# Altium schematic symbol library 507_Parts.SchLib: 15 symbols
Pins are listed as number, name and electrical type; pins without a type are passive.

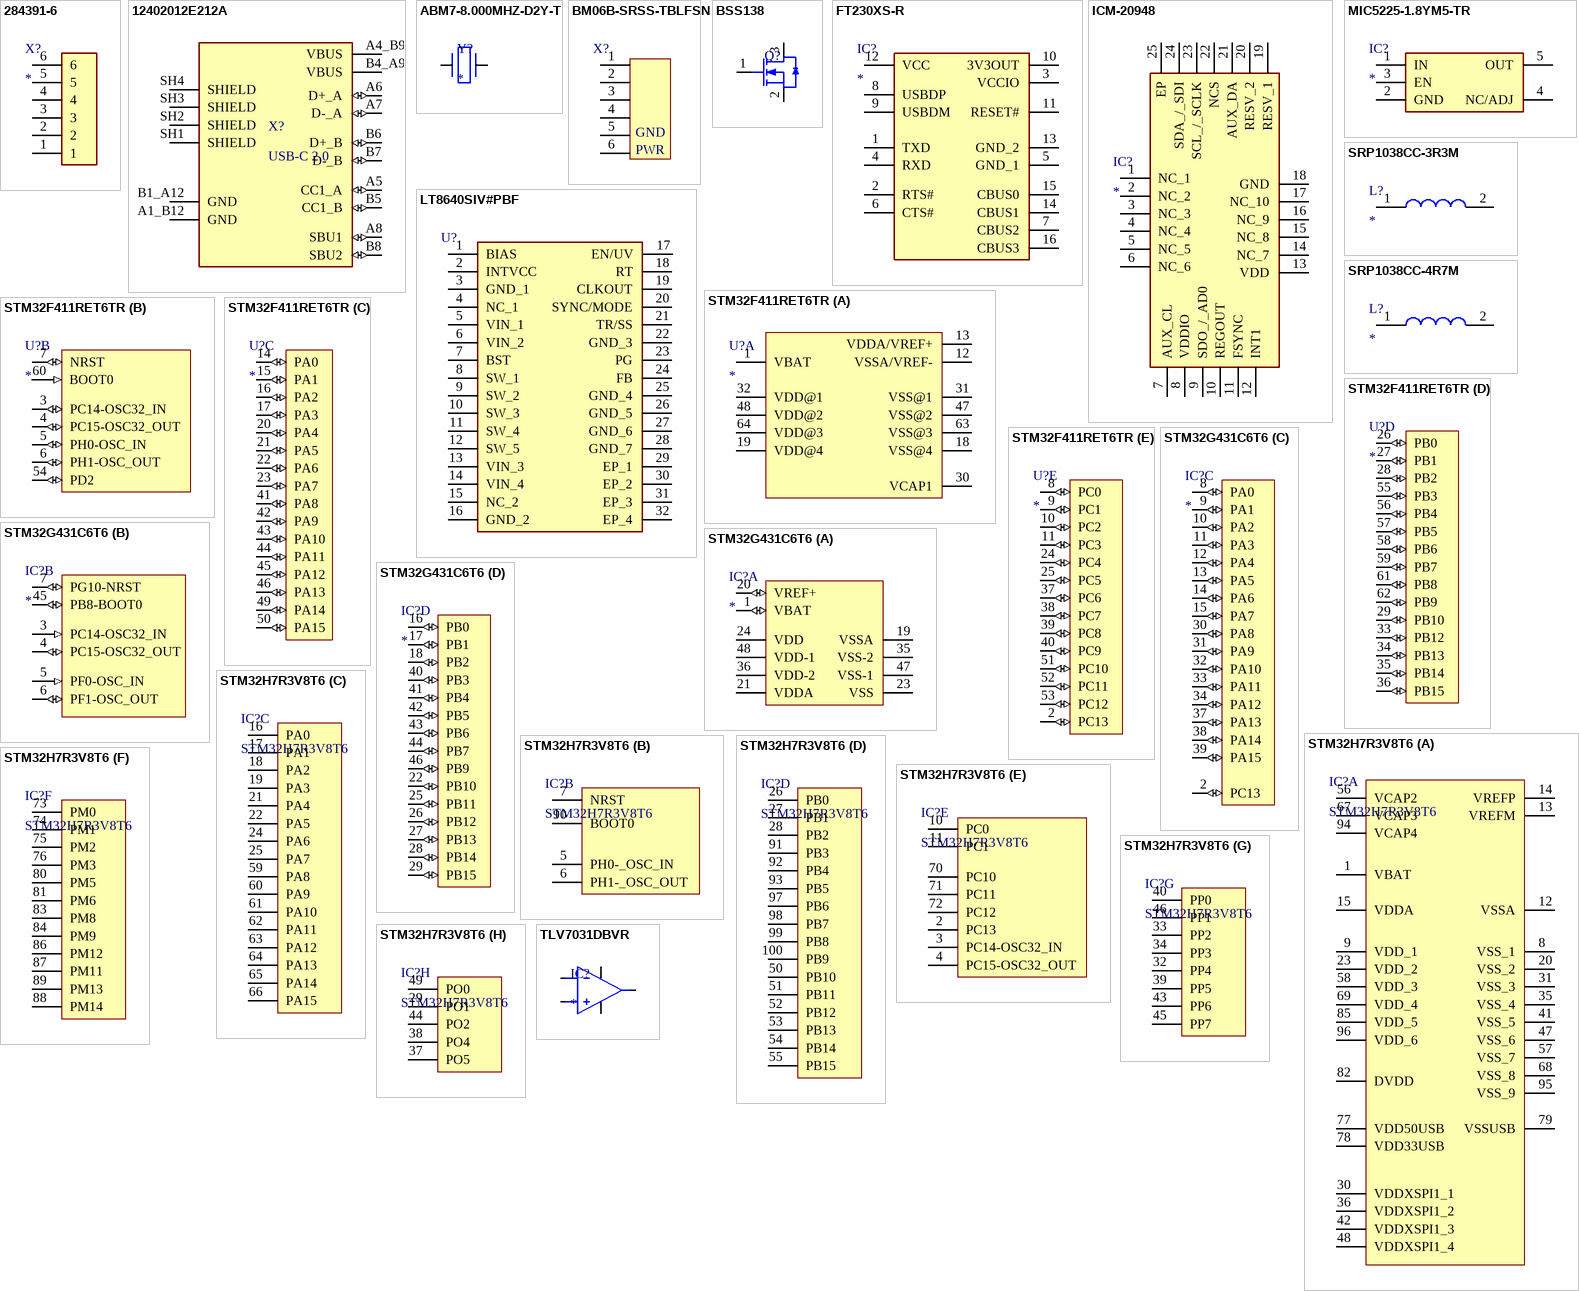
[diagram p0: symbols 284391-6 to TLV7031DBVR]

## 284391-6
designator X?
Connector; Manufacturer_Name: TE Connectivity; Manufacturer_Part_Number: 284391-6; Datasheet Link: https://www.te.com/commerce/DocumentDelivery/DDEController?Action=srchrtrv&DocNm=1-1773458-1_EURO_STYLE_QRG&DocType=Data%20Sheet&DocLang=English&PartCntxt=284391-6&DocFormat=pdf; Height: 12.8mm; Mouser Part Number: 571-284391-6; Mouser Price/Stock: https://www.mouser.co.uk/ProductDetail/TE-Connectivity/284391-6?qs=79dOc3%2F91%2FeC3GGdUf8hxQ%3D%3D; Arrow Part Number: 284391-6; Arrow Price/Stock: https://www.arrow.com/en/products/284391-6/te-connectivity?region=nac
footprint 2843916
pins: 1, 2, 3, 4, 5, 6

## 12402012E212A
designator X?, comment USB-C 2.0
CONN RCP USB2.0 TYP C 24P SMD RA; MF: {'manufacturer': u'Amphenol'}; MP: 12402012E212A; Package: None; Price: None; Value: *; Availability: Unavailable
footprint AMPHENOL_12402012E212A (Footprint not found)
pins: A1_B12 GND (power), A4_B9 VBUS (power), A5 CC1_A (io), A6 D+_A (io), A7 D-_A (io), A8 SBU1 (io), B1_A12 GND (power), B4_A9 VBUS (power), B5 CC1_B (io), B6 D+_B (io), B7 D-_B (io), B8 SBU2 (io), SH1 SHIELD, SH2 SHIELD, SH3 SHIELD, SH4 SHIELD

## ABM7-8.000MHZ-D2Y-T
designator Y?
Crystal or Oscillator; Manufacturer_Name: ABRACON; Manufacturer_Part_Number: ABM7-8.000MHZ-D2Y-T; Datasheet Link: https://abracon.com/Resonators/abm7.pdf; Height: 1.4mm; Mouser Part Number: 815-ABM7-8-D2Y-T; Mouser Price/Stock: https://www.mouser.co.uk/ProductDetail/ABRACON/ABM7-8.000MHZ-D2Y-T?qs=LoTOQoUkC8SFsmY8snleBA%3D%3D; Arrow Part Number: ABM7-8.000MHZ-D2Y-T; Arrow Price/Stock: https://www.arrow.com/en/products/abm7-8.000mhz-d2y-t/abracon?region=europe
footprint ABM7
pins: 1, 2

## BM06B-SRSS-TBLFSN
designator X?, comment BM06B-SRSS-TB  (value not drawn)
CONN HEADER SMD 6POS 1MM; Mfr_Name: JST; RefDes: X?; Type: Type; ComponentLink1Description: New link; ComponentLink1URL: https://www.digikey.com/en/products/detail/jst-sales-america-inc/BM06B-SRSS-TB/926698
footprint CONN_BM06B-SRSS-TB_JST
pins: 1, 2, 3, 4, 5, 6
text: GND; PWR

## BSS138
designator Q?  (value not drawn)
MOSFET (N-Channel); Manufacturer_Name: onsemi; Manufacturer_Part_Number: BSS138; Datasheet Link: https://www.onsemi.com/pub/Collateral/BSS138-D.PDF; Height: 1.2mm; Mouser Part Number: 512-BSS138; Mouser Price/Stock: https://www.mouser.co.uk/ProductDetail/onsemi-Fairchild/BSS138?qs=HK%252BeIG1iaahCeqBvjB4arg%3D%3D; Arrow Part Number: BSS138; Arrow Price/Stock: https://www.arrow.com/en/products/bss138/on-semiconductor
footprint SOT95P240X120-3N
pins: 1 G, 2 S, 3 D

## FT230XS-R
designator IC?
Integrated Circuit; Manufacturer_Name: FTDI Chip; Manufacturer_Part_Number: FT230XS-R; Datasheet Link: http://www.ftdichip.com/Support/Documents/DataSheets/ICs/DS_FT230X.pdf; Height: 1.753mm; Mouser Part Number: 895-FT230XS-R; Mouser Price/Stock: https://www.mouser.co.uk/ProductDetail/FTDI/FT230XS-R?qs=Gp1Yz1mis3XyCLeYOseSng%3D%3D; Arrow Part Number: FT230XS-R; Arrow Price/Stock: http://www.arrow.com/en/products/ft230xs-r/ftdi-chip
footprint SOP64P599X175-16N
pins: 1 TXD, 2 RTS#, 3 VCCIO, 4 RXD, 5 GND_1, 6 CTS#, 7 CBUS2, 8 USBDP, 9 USBDM, 10 3V3OUT, 11 RESET#, 12 VCC, 13 GND_2, 14 CBUS1, 15 CBUS0, 16 CBUS3

## ICM-20948
designator IC?
Integrated Circuit; Manufacturer_Name: TDK; Manufacturer_Part_Number: ICM-20948; Datasheet Link: https://product.tdk.com/system/files/dam/doc/product/sensor/mortion-inertial/imu/data_sheet/ds-000189-icm-20948-v1.3.pdf; Height: 1.05mm; Mouser Part Number: 410-ICM-20948; Mouser Price/Stock: https://www.mouser.co.uk/ProductDetail/TDK-InvenSense/ICM-20948?qs=u4fy%2FsgLU9OtGc31yF%2Friw%3D%3D; Arrow Part Number: ICM-20948; Arrow Price/Stock: https://www.arrow.com/en/products/icm-20948/invensense?region=nac
footprint QFN40P300X300X105-25N-D
pins: 1 NC_1, 2 NC_2, 3 NC_3, 4 NC_4, 5 NC_5, 6 NC_6, 7 AUX_CL, 8 VDDIO, 9 SDO_/_AD0, 10 REGOUT, 11 FSYNC, 12 INT1, 13 VDD, 14 NC_7, 15 NC_8, 16 NC_9, 17 NC_10, 18 GND, 19 RESV_1, 20 RESV_2, 21 AUX_DA, 22 NCS, 23 SCL_/_SCLK, 24 SDA_/_SDI, 25 EP

## LT8640SIV#PBF
designator U?  (value not drawn)
Integrated Circuit; Manufacturer_Name: Analog Devices; Datasheet Link: https://www.analog.com/LT8640S/datasheet; Height: 1.03mm; Manufacturer_Part_Number: LT8640SIV#PBF; Mouser Part Number: 584-LT8640SIVPBF; Mouser Price/Stock: https://www.mouser.co.uk/ProductDetail/Analog-Devices/LT8640SIVPBF?qs=5aG0NVq1C4wLdtPauIE3hA%3D%3D; Arrow Part Number: LT8640SIV#PBF; Arrow Price/Stock: https://www.arrow.com/en/products/lt8640sivpbf/analog-devices
footprint LT8640SIVPBF
pins: 1 BIAS, 2 INTVCC, 3 GND_1, 4 NC_1, 5 VIN_1, 6 VIN_2, 7 BST, 8 SW_1, 9 SW_2, 10 SW_3, 11 SW_4, 12 SW_5, 13 VIN_3, 14 VIN_4, 15 NC_2, 16 GND_2, 17 EN/UV, 18 RT, 19 CLKOUT, 20 SYNC/MODE, 21 TR/SS, 22 GND_3, 23 PG, 24 FB, 25 GND_4, 26 GND_5, 27 GND_6, 28 GND_7, 29 EP_1, 30 EP_2, 31 EP_3, 32 EP_4

## MIC5225-1.8YM5-TR
designator IC?
Integrated Circuit; Manufacturer_Name: Microchip; Manufacturer_Part_Number: MIC5225-1.8YM5-TR; Datasheet Link: http://www.microchip.com/mymicrochip/filehandler.aspx?ddocname=en579718; Height: 1.3mm; Mouser Part Number: 998-MIC5225-1.8YM5TR; Mouser Price/Stock: https://www.mouser.co.uk/ProductDetail/Microchip-Technology/MIC5225-1.8YM5-TR?qs=U6T8BxXiZAW23RI71jjM5w%3D%3D; Arrow Part Number: MIC5225-1.8YM5-TR; Arrow Price/Stock: https://www.arrow.com/en/products/mic5225-1.8ym5-tr/microchip-technology?region=nac
footprint SOT95P280X130-5N
pins: 1 IN, 2 GND, 3 EN, 4 NC/ADJ, 5 OUT

## SRP1038CC-3R3M
designator L?
Inductor, 3.3uH; Manufacturer_Name: Bourns; Manufacturer_Part_Number: SRP1038CC-4R7M; Datasheet Link: https://www.digikey.com/en/products/detail/bourns-inc/SRP1038CC-3R3M/21263957?s=N4IgTCBcDaIMoCUAKBGADAZgBwGEcFoMEMBZEAXQF8g; Height: 4mm
footprint INDPM110100X400N
pins: 1, 2

## SRP1038CC-4R7M
designator L?
Inductor; Manufacturer_Name: Bourns; Manufacturer_Part_Number: SRP1038CC-4R7M; Datasheet Link: https://www.bourns.com/docs/Product-Datasheets/SRP1038CC.pdf; Height: 4mm
footprint INDPM110100X400N
pins: 1, 2

## STM32F411RET6TR
designator U?
High-performance access line, ARM Cortex-M4 core with DSP and FPU, 512 Kbytes Flash, 100 MHz CPU, ART Accelerator; MF: {'manufacturer': u'STMicroelectronics'}; MP: STM32F411RET6TR; Package: None; Price: None; Value: *; Availability: Unavailable
footprint QFP50P1200X1200X160-64N
part A pins: 1 VBAT (power), 12 VSSA/VREF- (power), 13 VDDA/VREF+ (power), 18 VSS@4 (power), 19 VDD@4 (power), 30 VCAP1, 31 VSS@1 (power), 32 VDD@1 (power), 47 VSS@2 (power), 48 VDD@2 (power), 63 VSS@3 (power), 64 VDD@3 (power)
part B pins: 3 PC14-OSC32_IN (io), 4 PC15-OSC32_OUT (io), 5 PH0-OSC_IN (io), 6 PH1-OSC_OUT (io), 7 NRST (io), 54 PD2 (io), 60 BOOT0 (in)
part C pins: 14 PA0 (io), 15 PA1 (io), 16 PA2 (io), 17 PA3 (io), 20 PA4 (io), 21 PA5 (io), 22 PA6 (io), 23 PA7 (io), 41 PA8 (io), 42 PA9 (io), 43 PA10 (io), 44 PA11 (io), 45 PA12 (io), 46 PA13 (io), 49 PA14 (io), 50 PA15 (io)
part D pins: 26 PB0 (io), 27 PB1 (io), 28 PB2 (io), 29 PB10 (io), 33 PB12 (io), 34 PB13 (io), 35 PB14 (io), 36 PB15 (io), 55 PB3 (io), 56 PB4 (io), 57 PB5 (io), 58 PB6 (io), 59 PB7 (io), 61 PB8 (io), 62 PB9 (io)
part E pins: 2 PC13 (io), 8 PC0 (io), 9 PC1 (io), 10 PC2 (io), 11 PC3 (io), 24 PC4 (io), 25 PC5 (io), 37 PC6 (io), 38 PC7 (io), 39 PC8 (io), 40 PC9 (io), 51 PC10 (io), 52 PC11 (io), 53 PC12 (io)

## STM32G431C6T6
designator IC?
IC MCU 32BIT 32KB FLASH 48LQFP; MF: {'manufacturer': u'STMicroelectronics'}; MP: STM32G431C6T6; Package: None; Price: None; Value: *; Availability: Unavailable
footprint QFP50P900X900X160-48N
part A pins: 1 VBAT (io), 19 VSSA (power), 20 VREF+ (io), 21 VDDA (power), 23 VSS (power), 24 VDD (power), 35 VSS-2 (power), 36 VDD-2 (power), 47 VSS-1 (power), 48 VDD-1 (power)
part B pins: 3 PC14-OSC32_IN (in), 4 PC15-OSC32_OUT (io), 5 PF0-OSC_IN (in), 6 PF1-OSC_OUT (io), 7 PG10-NRST (io), 45 PB8-BOOT0 (io)
part C pins: 2 PC13 (io), 8 PA0 (io), 9 PA1 (io), 10 PA2 (io), 11 PA3 (io), 12 PA4 (io), 13 PA5 (io), 14 PA6 (io), 15 PA7 (io), 30 PA8 (io), 31 PA9 (io), 32 PA10 (io), 33 PA11 (io), 34 PA12 (io), 37 PA13 (io), 38 PA14 (io), 39 PA15 (io)
part D pins: 16 PB0 (io), 17 PB1 (io), 18 PB2 (io), 22 PB10 (io), 25 PB11 (io), 26 PB12 (io), 27 PB13 (io), 28 PB14 (io), 29 PB15 (io), 40 PB3 (io), 41 PB4 (io), 42 PB5 (io), 43 PB6 (io), 44 PB7 (io), 46 PB9 (io)

## STM32H7R3V8T6
designator IC?
IC MCU 32BIT 64KB FLASH 100LQFP; Manufacturer_Name: STMicroelectronics; Datasheet Link: https://www.st.com/resource/en/datasheet/stm32h7r3a8.pdf; Height: 1.6mm; Manufacturer_Part_Number: STM32H7R3V8T6
footprint QFP50P1600X1600X160-100N
part A pins: 1 VBAT, 8 VSS_1, 9 VDD_1, 12 VSSA, 13 VREFM, 14 VREFP, 15 VDDA, 20 VSS_2, 23 VDD_2, 30 VDDXSPI1_1, 31 VSS_3, 35 VSS_4, 36 VDDXSPI1_2, 41 VSS_5, 42 VDDXSPI1_3, 47 VSS_6, 48 VDDXSPI1_4, 56 VCAP2, 57 VSS_7, 58 VDD_3, 67 VCAP3, 68 VSS_8, 69 VDD_4, 77 VDD50USB, 78 VDD33USB, 79 VSSUSB, 82 DVDD, 85 VDD_5, 94 VCAP4, 95 VSS_9, 96 VDD_6
part B pins: 5 PH0-_OSC_IN, 6 PH1-_OSC_OUT, 7 NRST, 90 BOOT0
part C pins: 16 PA0, 17 PA1, 18 PA2, 19 PA3, 21 PA4, 22 PA5, 24 PA6, 25 PA7, 59 PA8, 60 PA9, 61 PA10, 62 PA11, 63 PA12, 64 PA13, 65 PA14, 66 PA15
part D pins: 26 PB0, 27 PB1, 28 PB2, 50 PB10, 51 PB11, 52 PB12, 53 PB13, 54 PB14, 55 PB15, 91 PB3, 92 PB4, 93 PB5, 97 PB6, 98 PB7, 99 PB8, 100 PB9
part E pins: 2 PC13, 3 PC14-OSC32_IN, 4 PC15-OSC32_OUT, 10 PC0, 11 PC1, 70 PC10, 71 PC11, 72 PC12
part F pins: 73 PM0, 74 PM1, 75 PM2, 76 PM3, 80 PM5, 81 PM6, 83 PM8, 84 PM9, 86 PM12, 87 PM11, 88 PM14, 89 PM13
part G pins: 32 PP4, 33 PP2, 34 PP3, 39 PP5, 40 PP0, 43 PP6, 45 PP7, 46 PP1
part H pins: 29 PO1, 37 PO5, 38 PO4, 44 PO2, 49 PO0

## TLV7031DBVR
designator IC?
Analog Comparators Nanopower, small size comparator with push-pull output 5-SOT-23 -40 to 125C range; Manufacturer_Name: Texas Instruments; Manufacturer_Part_Number: TLV7031DBVR; Description: Nanopower; Datasheet Link: http://www.ti.com/lit/gpn/TLV7031; Height: 1.45mm; Mouser Part Number: 595-TLV7031DBVR; Mouser Price/Stock: https://www.mouser.co.uk/ProductDetail/Texas-Instruments/TLV7031DBVR?qs=EBDBlbfErPzxbC0zg598sw%3D%3D; Arrow Part Number: TLV7031DBVR; Arrow Price/Stock: https://www.arrow.com/en/products/tlv7031dbvr/texas-instruments?region=nac
footprint SOT95P280X145-5N
pins: 1 OUT, 2 VEE, 3 IN+, 4 IN-, 5 VCC